# Altium footprint library AltTab_PCB_Chip.PcbLib: 105 footprints (part 3 of 7)
Each footprint in its own frame and in the unit in brackets; x right, y up, seen from the top. Pads: shape width x height; smd on the part's side, far side on the other; paste and mask are expansions set on the pad; w line width, h text height; cw(c..) or ccw(c..) is an arc to the next point about the centre after c.
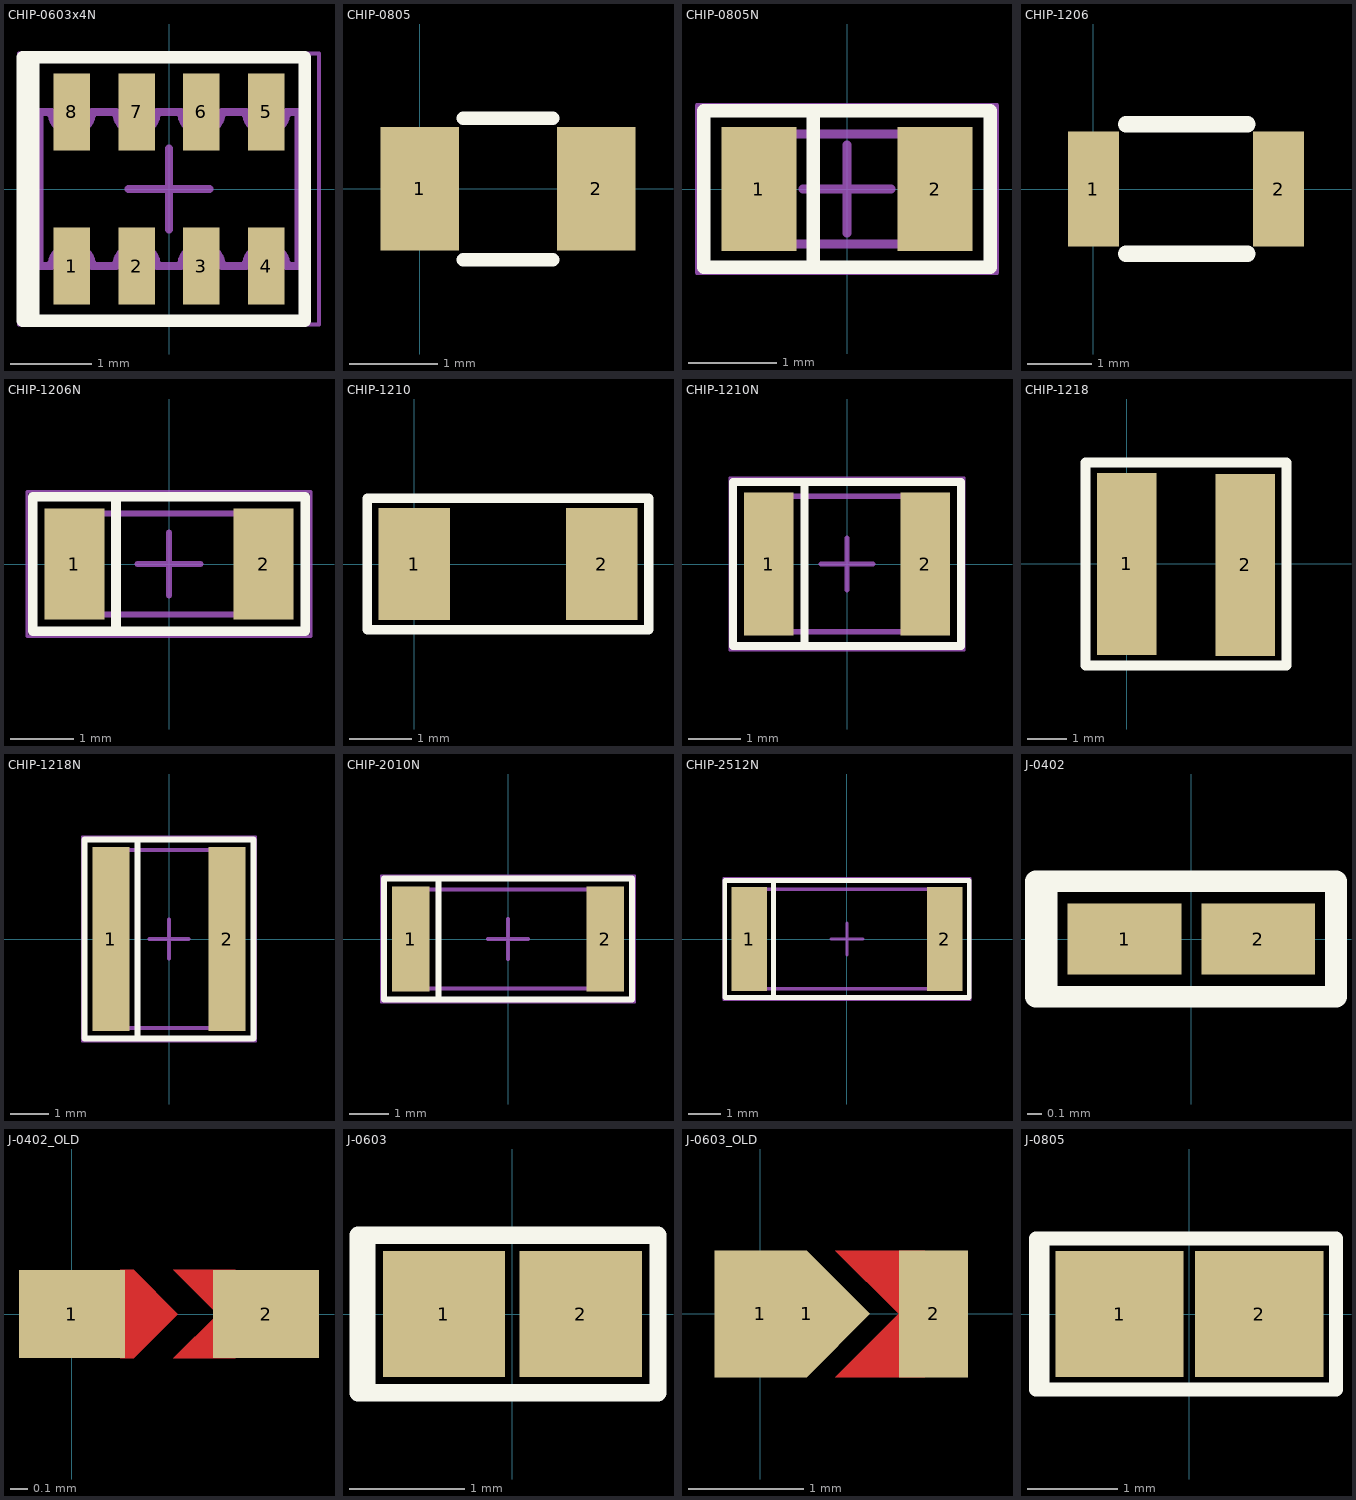
[diagram p2: the footprints below, top view; thin cyan lines are the x and y axes]

## CHIP-0603x4N [mm] "Chip Array, Concave, 8-Leads, Pitch 0,80mm,  Body 3,20x1,60mm,  IPC Medium Density"
height 0.6
pads (8):
  rect 0.45x0.95 smd: 1(-1.2,-0.95) 2(-0.4,-0.95) 3(0.4,-0.95) 4(1.2,-0.95) 5(1.2,0.95) 6(0.4,0.95) 7(-0.4,0.95) 8(-1.2,0.95)
Top Overlay:
  lines w0.152: -1.6,-1.626 -1.803,-1.626 -1.803,1.473 -1.803,1.626 -1.499,1.626 ; 1.676,-1.448 1.676,1.626 1.245,1.626 -1.676,1.626 -1.676,1.295 -1.676,-1.626 -0.102,-1.626 1.676,-1.626 1.676,-1.372
Assembly Top:
  lines w0.1: -1.6,-0.95 -1.45,-0.95 cw(c-1.2,-0.95) -0.95,-0.95 -0.65,-0.95 cw(c-0.4,-0.95) -0.15,-0.95 0.15,-0.95 cw(c0.4,-0.95) 0.65,-0.95 0.95,-0.95 cw(c1.2,-0.95) 1.45,-0.95 1.6,-0.95 1.6,0.95 1.45,0.95 cw(c1.2,0.95) 0.95,0.95 0.65,0.95 cw(c0.4,0.95) 0.15,0.95 -0.15,0.95 cw(c-0.4,0.95) -0.65,0.95 -0.95,0.95 cw(c-1.2,0.95) -1.45,0.95 -1.6,0.95 -1.6,-0.95
Courtyard Top:
  lines w0.05: -1.85,-1.67 -1.85,1.67 1.85,1.67 1.85,-1.67 -1.85,-1.67
  lines w0.1: -0.5,0 0.5,0 ; 0,-0.5 0,0.5
3D body "CAC-80P320X160-8N.step": height 0.6, standoff 0, extent -1.6,-0.85 1.6,0.85

## CHIP-0805 [mil]
pads (2):
  rect 35x55 smd mask+1.97: 1(0,0) 2(78.74,0)
Top Overlay:
  lines w6: 19.37,-31.61 59.37,-31.61 ; 19.37,31.39 59.37,31.39

## CHIP-0805N [mm]
height 0.5
pads (2):
  rect 0.85x1.4 smd: 1(-1,0) 2(1,0)
Top Overlay:
  lines w0.152: -1.575,-0.889 1.626,-0.889 1.626,-0.203 1.626,0.889 0.584,0.889 -1.626,0.889 -1.626,-0.381 -1.626,-0.889 -1.524,-0.889 ; -0.406,0.889 -0.381,0.889 -0.381,-0.889
Assembly Top:
  lines w0.1: -1,-0.625 1,-0.625 1,0.625 -1,0.625 -1,-0.625
Courtyard Top:
  lines w0.05: -1.7,-0.95 1.7,-0.95 1.7,0.95 -1.7,0.95 -1.7,-0.95
  lines w0.1: -0.5,0 0.5,0 ; 0,-0.5 0,0.5
3D body: height 0.5, standoff 0, extent 0.65,-0.625 1,0.625
3D body: height 0.5, standoff 0, extent -1,-0.625 -0.65,0.625
3D body: height 0.5, standoff 0, extent -0.65,-0.625 0.65,0.625

## CHIP-1206 [mm]
pads (2):
  rect 0.8x1.8 smd mask+0.05: 1(0,0) 2(2.9,0)
Top Overlay:
  lines w0.254: 0.508,-1.016 2.413,-1.016 ; 0.508,1.016 2.413,1.016

## CHIP-1206N [mm]
height 0.55
pads (2):
  rect 0.95x1.75 smd: 1(-1.5,0) 2(1.5,0)
Top Overlay:
  lines w0.152: -2.007,-1.067 2.159,-1.067 2.159,1.067 1.981,1.067 -2.159,1.067 -2.159,-1.067 -1.88,-1.067 ; -0.889,-1.067 -0.838,-1.067 -0.838,0.025 -0.838,1.041
Assembly Top:
  lines w0.1: -1.55,-0.8 1.55,-0.8 1.55,0.8 -1.55,0.8 -1.55,-0.8
Courtyard Top:
  lines w0.05: -2.25,-1.15 2.25,-1.15 2.25,1.15 -2.25,1.15 -2.25,-1.15
  lines w0.1: -0.5,0 0.5,0 ; 0,-0.5 0,0.5
3D body: height 0.55, standoff 0, extent 1.1,-0.8 1.55,0.8
3D body: height 0.55, standoff 0, extent -1.55,-0.8 -1.1,0.8
3D body: height 0.55, standoff 0, extent -1.1,-0.8 1.1,0.8

## CHIP-1210 [mm]
pads (2):
  rect 1.15x1.8 smd mask+0.05: 1(0,0) 2(3,0)
Top Overlay:
  lines w0.15: -0.75,-1.05 -0.75,1.05 3.75,1.05 3.75,-1.05 -0.75,-1.05

## CHIP-1210N [mm]
height 0.55
pads (2):
  rect 0.95x2.75 smd: 1(-1.5,0) 2(1.5,0)
Top Overlay:
  lines w0.152: -2.057,-1.575 2.184,-1.575 2.184,-0.635 2.184,1.575 0.33,1.575 -2.184,1.575 -2.184,-0.584 -2.184,-1.575 -1.702,-1.575 ; -0.864,-1.575 -0.813,-1.575 -0.813,-0.559 -0.813,1.549
Assembly Top:
  lines w0.1: -1.55,-1.3 -1.55,1.3 1.55,1.3 1.55,-1.3 -1.55,-1.3
Courtyard Top:
  lines w0.05: -2.25,-1.65 -2.25,1.65 2.25,1.65 2.25,-1.65 -2.25,-1.65
  lines w0.1: -0.5,0 0.5,0 ; 0,-0.5 0,0.5
3D body: height 0.55, standoff 0, extent -1.1,-1.3 1.1,1.3
3D body: height 0.55, standoff 0, extent -1.55,-1.3 -1.1,1.3
3D body: height 0.55, standoff 0, extent 1.1,-1.3 1.55,1.3

## CHIP-1218 [mm]
pads (2):
  rect 1.5x4.6 smd mask+0.05: 1(0,0) 2(3,-0.025)
Top Overlay:
  lines w0.254: -1.05,-2.575 -1.05,2.575 4.05,2.575 4.05,-1.775 4.05,-2.575 -1.05,-2.575
Mechanical 15:
  lines w0.1: -1.05,2.575 -1.05,-2.575 4.05,-2.575 4.05,2.525 ; -1,2.575 4.05,2.575
3D body: height 0.55, standoff 0, extent 0,-2.325 3,2.325

## CHIP-1218N [mm]
height 0.55
pads (2):
  rect 0.95x4.75 smd: 1(-1.5,0) 2(1.5,0)
Top Overlay:
  lines w0.152: -2.007,-2.565 2.184,-2.565 2.184,-2.032 2.184,2.489 2.184,2.565 1.422,2.565 -1.549,2.565 -2.083,2.565 -2.184,2.565 -2.184,-2.54 -2.184,-2.565 -1.854,-2.565 ; -0.864,2.565 -0.813,2.565 -0.813,1.829 -0.813,-2.565
Assembly Top:
  lines w0.1: -1.55,-2.3 -1.55,2.3 1.55,2.3 1.55,-2.3 -1.55,-2.3
Courtyard Top:
  lines w0.05: -2.25,-2.65 -2.25,2.65 2.25,2.65 2.25,-2.65 -2.25,-2.65
  lines w0.1: -0.5,0 0.5,0 ; 0,-0.5 0,0.5
3D body: height 0.55, standoff 0, extent -1.1,-2.3 1.1,2.3
3D body: height 0.55, standoff 0, extent -1.55,-2.3 -1.1,2.3
3D body: height 0.55, standoff 0, extent 1.1,-2.3 1.55,2.3

## CHIP-2010N [mm]
height 0.55
pads (2):
  rect 0.95x2.65 smd: 1(-2.45,0) 2(2.45,0)
Top Overlay:
  lines w0.152: -1.88,-1.524 -1.753,-1.524 -1.753,-1.245 -1.753,1.499 ; -3.124,-1.524 -3.124,0.508 -3.124,1.524 2.083,1.524 3.124,1.524 3.124,1.499 3.124,-1.041 3.124,-1.524 -2.515,-1.524 -3.124,-1.524
Assembly Top:
  lines w0.1: -2.5,-1.25 2.5,-1.25 2.5,1.25 -2.5,1.25 -2.5,-1.25
Courtyard Top:
  lines w0.05: -3.2,-1.6 3.2,-1.6 3.2,1.6 -3.2,1.6 -3.2,-1.6
  lines w0.1: -0.5,0 0.5,0 ; 0,-0.5 0,0.5
3D body: height 0.55, standoff 0, extent 2.05,-1.25 2.5,1.25
3D body: height 0.55, standoff 0, extent -2.5,-1.25 -2.05,1.25
3D body: height 0.55, standoff 0, extent -2.05,-1.25 2.05,1.25

## CHIP-2512N [mm]
height 0.55
pads (2):
  rect 1.1x3.25 smd: 1(-3.05,0) 2(3.05,0)
Top Overlay:
  lines w0.152: -3.048,-1.829 3.81,-1.829 3.81,-1.067 3.81,1.829 3.531,1.829 -3.81,1.829 -3.81,0.991 -3.81,-1.829 -2.997,-1.829 ; -2.337,-1.829 -2.286,-1.829 -2.286,-1.245 -2.286,1.829
Assembly Top:
  lines w0.1: -3.175,-1.55 3.175,-1.55 3.175,1.55 -3.175,1.55 -3.175,-1.55
Courtyard Top:
  lines w0.05: -3.85,-1.9 3.85,-1.9 3.85,1.9 -3.85,1.9 -3.85,-1.9
  lines w0.1: -0.5,0 0.5,0 ; 0,-0.5 0,0.5
3D body: height 0.55, standoff 0, extent 2.575,-1.55 3.175,1.55
3D body: height 0.55, standoff 0, extent -3.175,-1.55 -2.575,1.55
3D body: height 0.55, standoff 0, extent -2.575,-1.55 2.575,1.55

## J-0402 [mil]
pads (2):
  rect 31.5x19.68 smd mask+1.97: 1(-18.5,0) 2(18.5,0)
Top Layer:
  region: -4.5,-9
  region: 10,-9.84
  region: 10,-9.84
Top Overlay:
  lines w6: -36,-16 -43,-16 -43,13 -43,16 -30,16 ; -8,-16 40,-16 40,-2 40,16 13,16 -40,16 -40,-6 -40,-16 -7,-16
3D body: height 13.78, standoff 0, extent -11.81,-9.84 11.81,9.84
3D body: height 13.78, standoff 0, extent -19.68,-9.84 -11.81,9.84
3D body: height 13.78, standoff 0, extent 11.81,-9.84 19.69,9.84

## J-0402_OLD [mm]
pads (2):
  rect 0.6x0.5 smd mask+0.05: 1(0,0) 2(1.1,0)
Top Layer:
  region: 0.432,-0.229
  region: 0.35,-0.25 0.6,0 0.35,0.25 0.275,0.25 0.275,-0.25
  region: 0.8,-0.25
  region: 0.8,-0.25
  region: 0.925,-0.25 0.575,-0.25 0.825,0 0.575,0.25 0.925,0.25 1,0.175 1,-0.175

## J-0603 [mil]
pads (2):
  rect 42x43.31 smd mask+1.97: 1(-23.5,0) 2(23.5,0)
Top Layer:
  region: -11.36,-21.65
Top Overlay:
  lines w6: -47.5,-27 50,-27 50,27 27.5,27 -50,27 -50,-27 -43.5,-27 ; -46,-27 -53,-27 -53,4 -53,27 -44,27
3D body: height 17.72, standoff 0, extent 21.65,-15.75 31.5,15.75
3D body: height 17.72, standoff 0, extent -31.5,-15.75 -21.65,15.75
3D body: height 17.72, standoff 0, extent -21.65,-15.75 21.65,15.75

## J-0603_OLD [mm]
pads (3):
  rect 0.8x1.1 smd mask+0.05: 1(0,0)
  rect 0.778x0.778 smd rot 45 mask+0.05: 1(0.4,0)
  rect 0.6x1.1 smd mask+0.05: 2(1.5,0)
Top Layer:
  region: 0.65,-0.55 1.2,0 0.65,0.55 1.425,0.55 1.425,-0.55
  region: 0.41,-0.55

## J-0805 [mil]
pads (2):
  rect 56x55.12 smd mask+1.97: 1(-30.5,0) 2(30.5,0)
Top Layer:
  region: -8,-27.56
Top Overlay:
  lines w6: -61,-33 -67,-33 -67,-11 -67,33 -58,33 ; -10.5,-33 64,-33 64,-19.5 64,33 52.5,33 -64,33 -64,-6.5 -64,-33 -8.5,-33
3D body: height 19.68, standoff 0, extent 25.59,-24.61 39.37,24.61
3D body: height 19.68, standoff 0, extent -39.37,-24.61 -25.59,24.61
3D body: height 19.68, standoff 0, extent -25.59,-24.61 25.59,24.61